# EAGLE library part LM2931-ADJ (library IC)
On-Semiconductor LM2931 100mA, Adjustable output, LDO Voltage Regulator
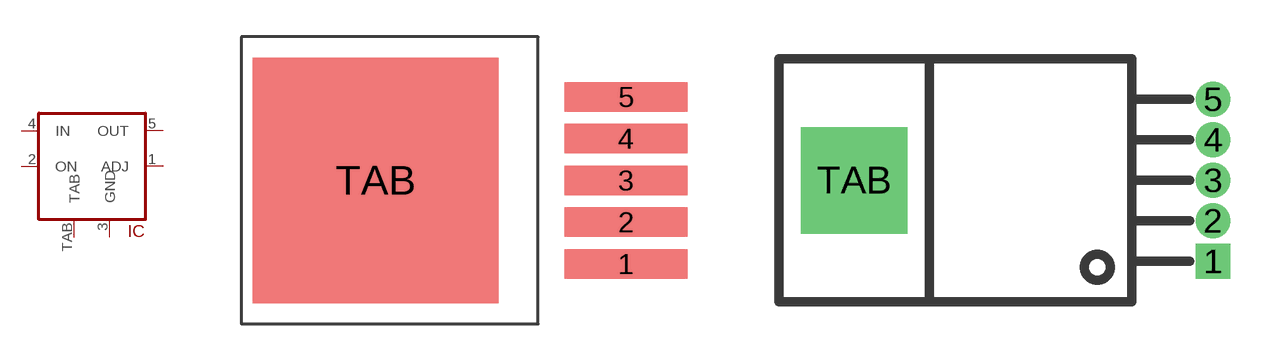
[diagram p74: symbol with the pads of TO-263-5; footprints TO-263-5, TO-220-5]

Designator prefix IC

## LM2931-ADJ-TO263-5  [TO-263-5]
1  ADJ
2  ON
3  GND  pwr
4  IN  pwr
5  OUT  pwr
TAB  TAB  pwr

## LM2931-ADJ-TO220-5  [TO-220-5]

## Footprint TO-263-5 (pad centres in mm)
5-lead TO-263 package
smd 5 x 1.2: 1 0,-3.4; 2 0,-1.7; 3 0,0; 4 0,1.7; 5 0,3.4
smd 10 x 10: TAB -10.2,0

## Footprint TO-220-5 (pad centres in mm)
TO-220 5 pin thruhole package
drill 1.016 square: 1 0,-3.556
drill 1.016 round: 2 0,-1.778; 3 0,0; 4 0,1.778; 5 0,3.556
drill 3.658 square: TAB -15.748,0